# Altium footprint library Mylibr1.PcbLib: 92 footprints (part 4 of 6)
Each footprint in its own frame and in the unit in brackets; x right, y up, seen from the top. Pads: shape width x height; smd on the part's side, far side on the other; paste and mask are expansions set on the pad; w line width, h text height; cw(c..) or ccw(c..) is an arc to the next point about the centre after c.
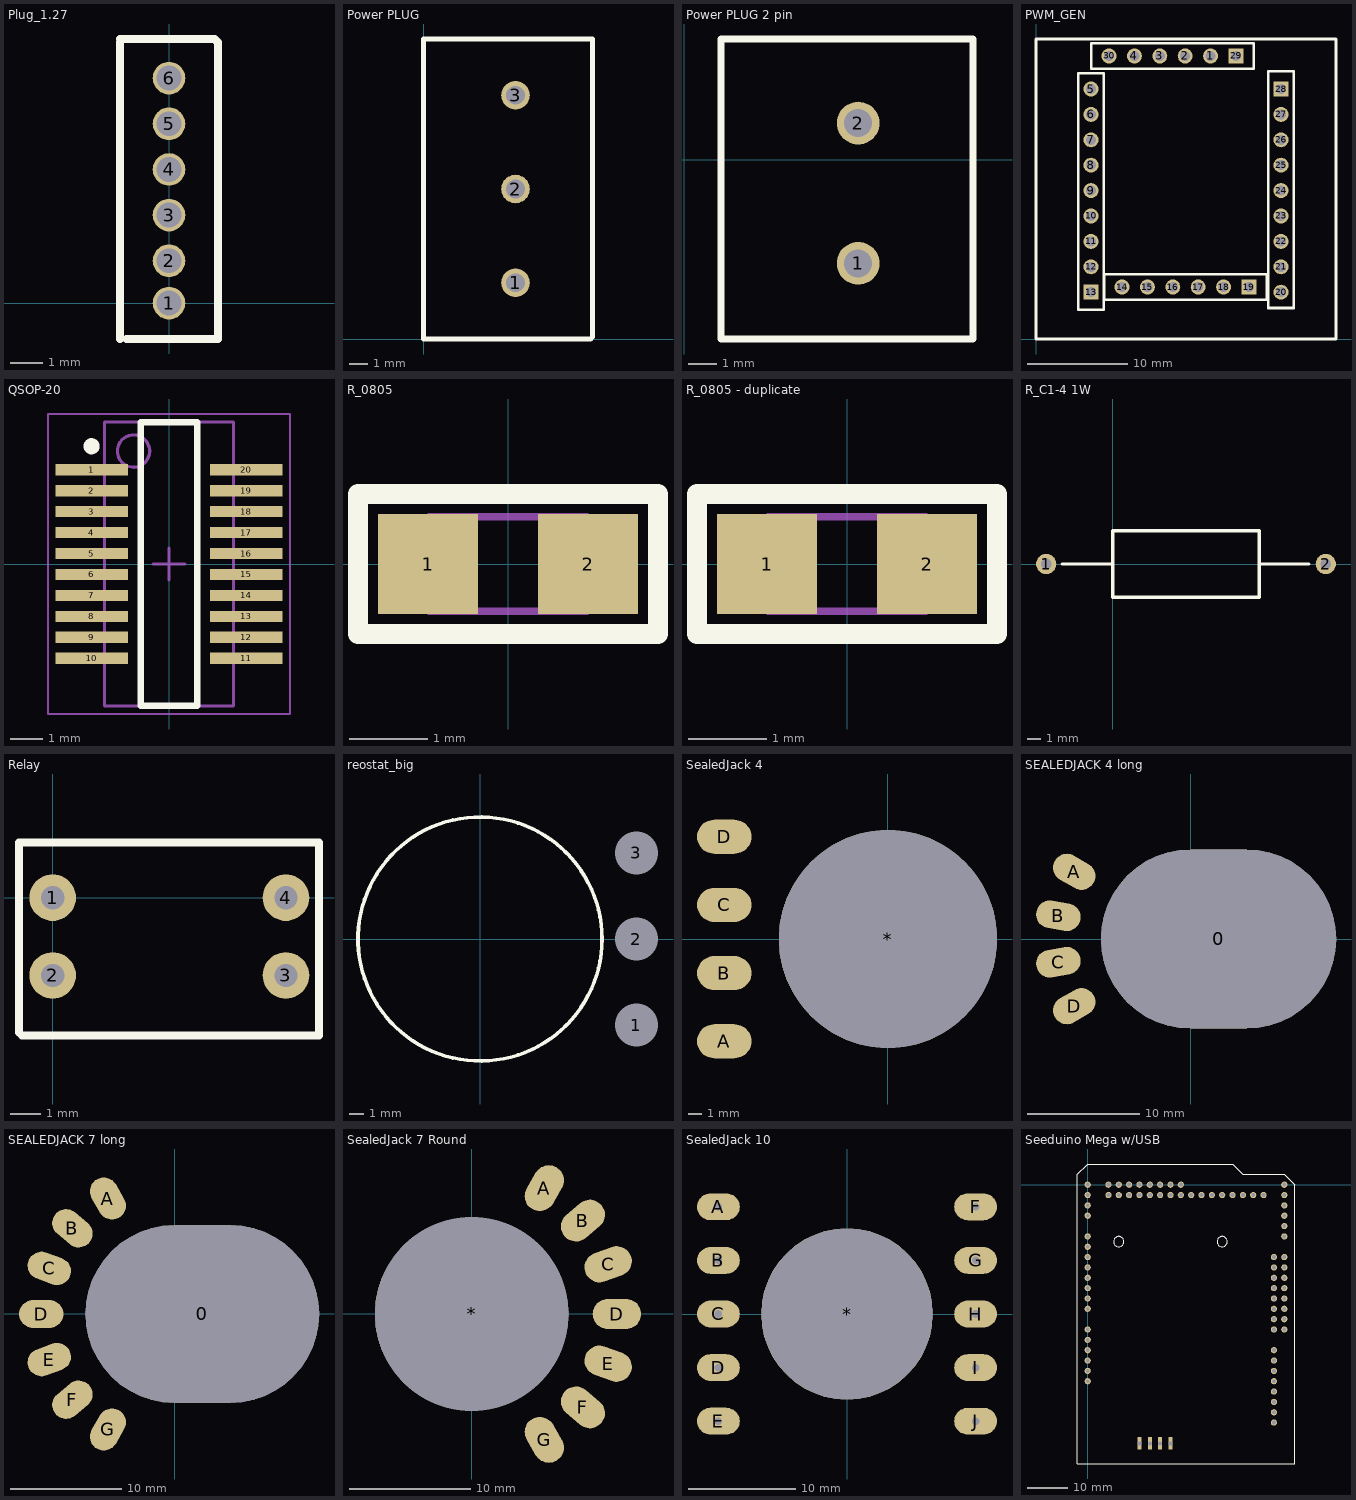
[diagram p3: the footprints below, top view; thin cyan lines are the x and y axes]

## Plug_1.27 [mm]
pads (6):
  round 1 hole 0.762: 1(0,0) 2(0,1.3) 3(0,2.7) 4(0,4.1) 5(0,5.5) 6(0,6.9)
Top Overlay:
  lines w0.254: -1.5,-1.1 -1.5,8 ; -1.5,8.1 1.4,8.1 1.5,8 1.5,-1.1 -1.3,-1.1

## Power PLUG [mm]
pads (3):
  round 1.524 hole 1: 1(4.9,3) 2(4.9,8) 3(4.9,13)
Top Overlay:
  lines w0.254: 0,0 0,16 9,16 9,0.1 8.9,0 0,0

## Power PLUG 2 pin [mm]
pads (2):
  round 1.524 hole 1: 1(6.2,-3.7) 2(6.2,1.3)
Top Overlay:
  lines w0.254: 1.3,-6.4 10.3,-6.4 10.3,4.3 1.3,4.3 1.3,-6.4

## PWM_GEN [mm]
pads (30):
  round 1.5 hole 1: 1(17.46,28.3) 2(14.92,28.3) 3(12.38,28.3) 4(9.84,28.3) 5(5.5,25) 6(5.5,22.46) 7(5.5,19.92) 8(5.5,17.38) 9(5.5,14.84) 10(5.5,12.3) 11(5.5,9.76) 12(5.5,7.22) 14(8.6,5.2) 15(11.14,5.2) 16(13.68,5.2) 17(16.22,5.2) 18(18.76,5.2) 20(24.5,4.68) 21(24.5,7.22) 22(24.5,9.76) 23(24.5,12.3) 24(24.5,14.84) 25(24.5,17.38) 26(24.5,19.92) 27(24.5,22.46) 30(7.3,28.3)
  rect 1.5x1.5 hole 1: 13(5.5,4.68) 19(21.3,5.2) 28(24.5,25) 29(20,28.3)
Top Overlay:
  lines w0.2: 12.55,6.45 17.45,6.45
  lines w0.254: 25.77,26.778 23.232,26.778 23.23,26.776 23.23,3.1 25.77,3.1 25.77,26.78 ; 0,0 30,0 30,30 0,30 0,0 ; 4.23,2.902 4.23,26.58 6.77,26.58 6.77,2.904 6.768,2.902 4.23,2.902 ; 5.522,27.03 5.522,29.57 21.78,29.57 21.78,27.03 5.522,27.03 ; 6.822,3.93 23.08,3.93 23.08,6.47 6.822,6.47 6.822,3.93
Bottom Overlay:
  lines w0.2: 4.23,2.902 6.77,2.902 ; 4.23,26.58 6.77,26.58 6.77,2.9 ; 21.778,27.03 21.778,29.57 ; 21.78,27.03 5.522,27.03 5.522,29.57 21.78,29.57 ; 23.078,3.93 23.078,6.47 ; 23.08,3.93 6.822,3.93 6.822,6.47 23.08,6.47 ; 23.23,26.778 25.77,26.778 ; 23.23,26.78 23.23,3.1 25.77,3.1 25.77,26.78
  lines w0.254: 4.23,2.902 4.23,26.58

## QSOP-20 [mm]
height 1.75
pads (20):
  rect 2.25x0.35 smd: 1(-2.4,2.925) 2(-2.4,2.275) 3(-2.4,1.625) 4(-2.4,0.975) 5(-2.4,0.325) 6(-2.4,-0.325) 7(-2.4,-0.975) 8(-2.4,-1.625) 9(-2.4,-2.275) 10(-2.4,-2.925) 11(2.4,-2.925) 12(2.4,-2.275) 13(2.4,-1.625) 14(2.4,-0.975) 15(2.4,-0.325) 16(2.4,0.325) 17(2.4,0.975) 18(2.4,1.625) 19(2.4,2.275) 20(2.4,2.925)
Top Overlay:
  circle w0.25: c-2.4,3.65 r0.125
  lines w0.2: -0.875,-4.4 -0.875,4.4 0.875,4.4 0.875,-4.4 -0.875,-4.4
Mechanical 13:
  circle w0.1: c-1.1,3.5 r0.5
  lines w0.1: -2,-4.4 -2,4.4 2,4.4 2,-4.4 -2,-4.4
Mechanical 15:
  lines w0.05: -3.75,-4.65 -3.75,4.65 3.75,4.65 3.75,-4.65 -3.75,-4.65
  lines w0.1: -0.5,0 0.5,0 ; 0,-0.5 0,0.5
3D body: height 1.75, standoff 0.25, extent -2,-4.4 2,4.4

## R_0805 [mil]
pads (2):
  rect 50x50 smd: 1(-40,0) 2(40,0)
Top Overlay:
  lines w10: -75,-35 75,-35 75,35 -75,35 -75,-35
Mechanical 13:
  lines w3.94: -39.37,-23.62 -39.37,23.62 39.37,23.62 39.37,-23.62 -39.37,-23.62
  text ".Designator" at -39.37,62.99 h98.43
3D body "User Library-Chip Resistor2.step": height 19.68, standoff 0, extent -39.37,-23.62 39.37,23.63

## R_0805 - duplicate [mil]
pads (2):
  rect 50x50 smd: 1(-40,0) 2(40,0)
Top Overlay:
  lines w10: -75,-35 75,-35 75,35 -75,35 -75,-35
Mechanical 13:
  lines w3.94: -39.37,-23.62 -39.37,23.62 39.37,23.62 39.37,-23.62 -39.37,-23.62
  text ".Designator" at -39.37,62.99 h98.43
3D body "User Library-Chip Resistor2.step": height 19.68, standoff 0, extent -39.37,-23.62 39.37,23.63

## R_C1-4 1W [mm]
height 5
pads (2):
  round 1.524 hole 0.8: 1(-5,0) 2(16,0)
Top Overlay:
  lines w0.254: -3.81,0 0,0 ; 11,0 14.732,0 ; 0,0 0,-2.5 11,-2.5 11,2.5 0,2.5 0,0

## Relay [mil]
pads (4):
  round 60 hole 30: 1(0,0) 2(0,-100) 3(300,-100) 4(300,0)
Top Overlay:
  lines w10: -43.31,-173.23 -43.31,70.87 342.52,70.87 342.52,-177.17 -39.37,-177.17

## reostat_big [mm]
pads (3):
  rect 1.524x1.524 hole 3 square: 1(10.9,-6) 2(10.9,0) 3(10.9,6)
Top Overlay:
  circle w0.254: c0,0 r8.5

## SealedJack 4 [mm] "Гермоввод 4 пина"
pads (5):
  round 16 hole 16 unplated: *(0,0)
  oval 4x2.5 smd: A(-12,-7.5) B(-12,-2.5) C(-12,2.5) D(-12,7.5)

## SEALEDJACK 4 long [mm] "Гермоввод 4 пинов, вытянутое гнездо"
pads (5):
  oval 21x16 hole 16 slot 21 at 0 deg unplated: 0(2.5,0)
  oval 4x2.5 smd rot 150: A(-10.392,6)
  oval 4x2.5 smd rot 170: B(-11.818,2.084)
  oval 4x2.5 smd rot 10: C(-11.818,-2.084)
  oval 4x2.5 smd rot 30: D(-10.392,-6)

## SEALEDJACK 7 long [mm] "Гермоввод 7 пинов, вытянутой гнездо"
pads (8):
  oval 21x16 hole 16 slot 21 at 0 deg unplated: 0(2.5,0)
  oval 4x2.5 smd rot 120: A(-6,10.392)
  oval 4x2.5 smd rot 140: B(-9.193,7.713)
  oval 4x2.5 smd rot 160: C(-11.276,4.104)
  oval 4x2.5 smd: D(-12,0)
  oval 4x2.5 smd rot 20: E(-11.276,-4.104)
  oval 4x2.5 smd rot 40: F(-9.193,-7.713)
  oval 4x2.5 smd rot 60: G(-6,-10.392)

## SealedJack 7 Round [mm] "Гермоввод 7 пинов"
pads (8):
  round 16 hole 16 unplated: *(0,0)
  oval 4x2.5 smd rot 60: A(6,10.392)
  oval 4x2.5 smd rot 40: B(9.193,7.713)
  oval 4x2.5 smd rot 20: C(11.276,4.104)
  oval 4x2.5 smd: D(12,0)
  oval 4x2.5 smd rot 160: E(11.276,-4.104)
  oval 4x2.5 smd rot 140: F(9.193,-7.713)
  oval 4x2.5 smd rot 120: G(6,-10.392)

## SealedJack 10 [mm] "Гермоввод 10 пинов"
pads (11):
  round 16 hole 16 unplated: *(0,0)
  oval 4x2.5 smd: A(-12,10) B(-12,5) C(-12,0) D(-12,-5) E(-12,-10) F(12,10) G(12,5) H(12,0) I(12,-5) J(12,-10)
via 12,10 diameter 1.27 hole 0.711
via 12,5 diameter 1.27 hole 0.711
via 12,0 diameter 1.27 hole 0.711
via 12,-5 diameter 1.27 hole 0.711
via 12,-10 diameter 1.27 hole 0.711
via -12,-10 diameter 1.27 hole 0.711
via -12,-5 diameter 1.27 hole 0.711
via -12,0 diameter 1.27 hole 0.711
via -12,5 diameter 1.27 hole 0.711
via -12,10 diameter 1.27 hole 0.711

## Seeduino Mega w/USB [mil]
pads (76):
  round 60 hole 38: 0(200,-100) 0(200,0) 0(300,-100) 0(300,0) 0(400,-100) 0(400,0) 0(500,-100) 0(500,0) 0(600,-100) 0(600,0) 0(700,-100) 0(700,0) 0(800,-100) 0(800,0) 0(900,-100) 0(900,0) 0(1000,-100) 0(1100,-100) 0(1200,-100) 0(1300,-100) 0(1400,-100) 0(1500,-100) 0(1600,-100) 0(1700,-100) 1(0,-1900) 2(0,-1800) 3(0,-1700) 4(0,-1600) 5(0,-1500) 6(0,-1400) 7(0,-1200) 8(0,-1100) 9(0,-1000) 10(0,-900) 11(0,-800) 12(0,-700) 13(0,-600) 14(0,-500) 15(0,-300) 16(0,-200) 17(0,-100) 18(0,0) 19(1900,0) 20(1900,-100) 21(1900,-200) 22(1900,-300) 23(1900,-400) 24(1900,-500) 25(1800,-700) 25(1900,-700) 26(1800,-800) 26(1900,-800) 27(1800,-900) 27(1900,-900) 28(1800,-1000) 28(1900,-1000) 29(1800,-1100) 29(1900,-1100) 30(1800,-1200) 30(1900,-1200) 31(1800,-1300) 31(1900,-1300) 32(1800,-1400) 32(1900,-1400) 33(1800,-1600) 34(1800,-1700) 35(1800,-1800) 36(1800,-1900) 37(1800,-2000) 38(1800,-2100) 39(1800,-2200) 40(1800,-2300)
  rect 39.37x118.11 hole 39.37 unplated: 0(500,-2500) 1(600,-2500) 2(700,-2500) 3(800,-2500)
Top Overlay:
  lines w10: -100,-2700 -100,100 0,200 1400,200 1500,100 1900,100 2000,0 2000,-2700 1900,-2700 -100,-2700 ; 250,-550 ccw(c300,-550) 350,-550 ccw(c300,-550) 250,-550 ; 1250,-550 ccw(c1300,-550) 1350,-550 ccw(c1300,-550) 1250,-550